# Altium footprint library Tan33u.PcbLib: 1 footprints
Each footprint in its own frame and in the unit in brackets; x right, y up, seen from the top. Pads: shape width x height; smd on the part's side, far side on the other; paste and mask are expansions set on the pad; w line width, h text height; cw(c..) or ccw(c..) is an arc to the next point about the centre after c.
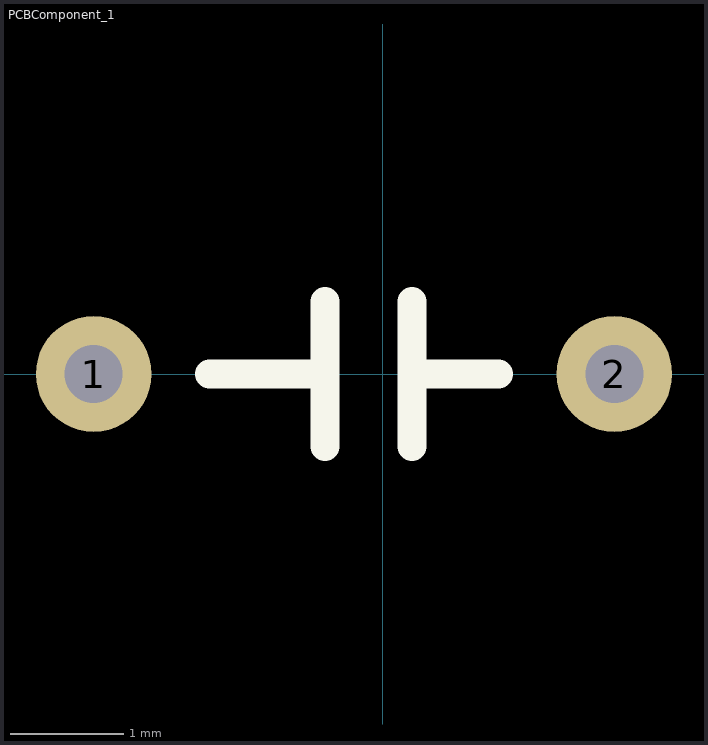
[diagram p0: the footprint, top view; thin cyan lines are the x and y axes]

## PCBComponent_1 [mil]
pads (2):
  round 40 hole 20: 1(-100,0) 2(80,0)
Top Overlay:
  lines w10: -60,0 -25,0 ; -20,-25 -20,-10 -20,25 ; 10,-25 10,25 ; 15,0 40,0